# Altium integrated library Analog Devices Data Converters Analog-to-Digital Converters.IntLib: 2400 symbols (part 182 of 338)
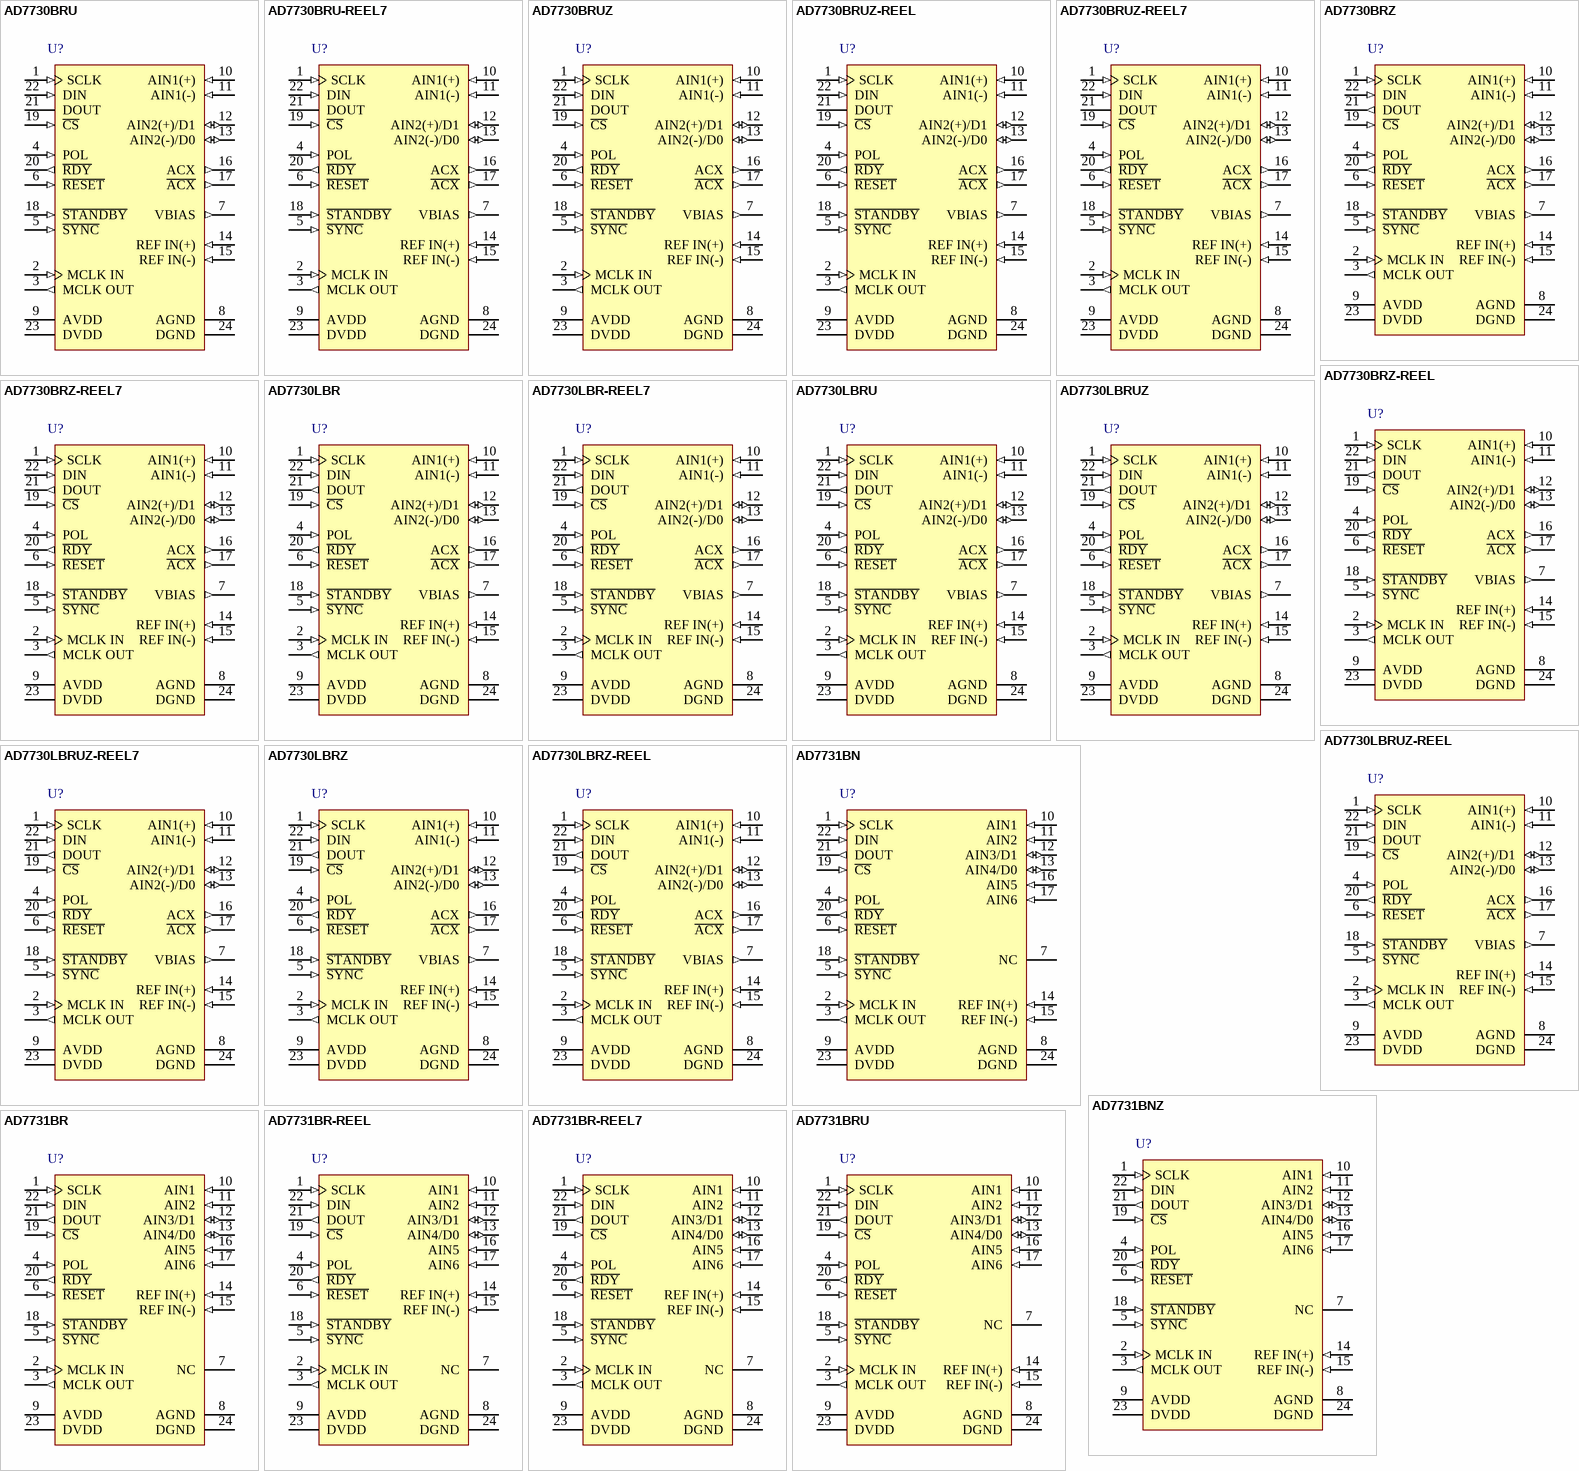
[diagram p356: symbols AD7730BRU to AD7731BRU]

## AD7730LBRUZ-REEL7
designator U?
Dual 24-Bit Bridge Transducer Analog-to-Digital Converter with Serial, SPI Interface, 600SPS, -40 to +85 degC, RU-24, Pb-Free, Reel; Part Number: AD7730L; Manufacturer: Analog Devices; Resolution (Bits): 24; Channels: 2; Throughput Rate (SPS): 600; Interface: Ser, SPI; DatasheetVersion: Rev.A; PackageVersion: 2002; PackageReference: RU-24; PackageDescription: 24-Lead Thin Shrink Small Outline Package [TSSOP]; RoHS: Y; Packing: Reel; Mounting Technology: Surface Mount; Code_JEDEC: MO-153-AD; ComponentLink1Description: Manufacturer URL; ComponentLink1URL: http://www.analog.com/en/index.html; ComponentLink2Description: Datasheet; ComponentLink2URL: http://www.analog.com/static/imported-files/data_sheets/AD7730_7730L.pdf; ComponentLink3Description: Package Specification; ComponentLink3URL: http://www.analog.com/static/imported-files/packages/380523655245964505593671154107510036154RU24.pdf; ComponentLink4Description: Product URL; ComponentLink4URL: http://www.analog.com/en/analog-to-digital-converters/ad-converters/ad7730l/products/product.html
footprint RU-24_N (TSOP, 24-Leads, Body 7.8x4.4mm, Pitch 0.65mm, IPC Medium Density)
footprint RU-24_L (TSOP, 24-Leads, Body 7.8x4.4mm, Pitch 0.65mm, IPC High Density)
footprint RU-24_M (TSOP, 24-Leads, Body 7.8x4.4mm, Pitch 0.65mm, IPC Low Density)
pins: 1 SCLK (in) "Serial Clock. Schmitt-Triggered Logic Input. An external serial clock is applied to this input to transfer serial data to or from the AD7730. This serial clock can be a continuous clock with all data transmitted in a (See Datasheet)", 2 MCLK IN (in) "Master Clock signal for the device. This can be provided in the form of a crystal/resonator or external clock. A crystal/resonator can be tied across the MCLK IN and MCLK OUT pins. Alternatively, the MCLK IN pin can be (See Datasheet)", 3 MCLK OUT (out) "When the master clock for the device is a crystal/resonator, the crystal/resonator is connected between MCLK IN and MCLK OUT. If an external clock is applied to the MCLK IN, MCLK OUT provides an inverted clock signal. This (See Datasheet)", 4 POL (in) "Clock Polarity. Logic Input. This determines the polarity of the serial clock. If the active edge for the processor is a high-to-low SCLK transition, this input should be low. In this mode, the AD7730 puts out data on the (See Datasheet)", 5 ~{SYNC} (in) "Logic Input that allows for synchronization of the digital filters and analog modulators when using a numberof AD7730s. While S\Y\N\C\  is low, the nodes of the digital filter, the filter control logic and the calibration (See Datasheet)", 6 ~{RESET} (in) "Logic Input. Active low input that resets the control logic, interface logic, digital filter, analog modulator an dall on-chip registers of the part to power-on status. Effectively, everything on the part except for the (See Datasheet)", 7 VBIAS (out) "Analog Output. This analog output is an internally-generated voltage used as an internal operating bias point. This output is not for use external to the AD7730 and it is recommended that the user does not connect anything (See Datasheet)", 8 AGND (power) "Ground reference point for analog circuitry.", 9 AVDD (power) "Analog Positive Supply Voltage. The AVDD to AGND differential is 5 V nominal.", 10 AIN1(+) (in) "Analog Input Channel 1. Positive input of the differential, programmable-gain primary analog input pair. The differential analog input ranges are 0 mV to +10 mV, 0 mV to +20 mV, 0 mV to +40 mV and 0 mV to +80 mV in unipolar (See Datasheet)", 11 AIN1(-) (in) "Analog Input Channel 1. Negative input of the differential, programmable gain primary analog input pair.", 12 AIN2(+)/D1 (io) "Analog Input Channel 2 or Digital Output 1. This pin can be used either as part of a second analog input channel or as a digital output bit as determined by the DEN bit of the Mode Register. When selected as an analog input, (See Datasheet)", 13 AIN2(-)/D0 (io) "Analog Input Channel 2 or Digital Output 0. This pin can be used either as part of a second analog input channel or as a digital output bit as determined by the DEN bit of the Mode Register. When selected as an analog input, (See Datasheet)", 14 REF IN(+) (in) "Reference Input. Positive terminal of the differential reference input to the AD7730. REF IN(+) can lie anywhere between AVDD and AGND. The nominal reference voltage (the differential voltage between REF IN(+) and REF IN(-)) (See Datasheet)", 15 REF IN(-) (in) "Reference Input. Negative terminal of the differential reference input to the AD7730. The REF IN(-) potential can lie anywhere between AVDD and AGND.", 16 ACX (out) "Digital Output. Provides a signal that can be used to control the reversing of the bridge excitation in acexcited bridge applications. When ACX is high, the bridge excitation is taken as normal and when ACX is low, the (See Datasheet)", 17 ~{ACX} (out) "Digital Output. Provides a signal that can be used to control the reversing of the bridge excitation in acexcited bridge applications. This output is the complement of A\C\X\ . In ac mode, this means that it toggles in (See Datasheet)", 18 ~{STANDBY} (in) "Logic Input. Taking this pin low shuts down the analog and digital circuitry, reducing current consumption to the 5 uA range. The on-chip registers retain all their values when the part is in standby mode.", 19 ~{CS} (in) "Chip Select. Active low Logic Input used to select the AD7730. With this input hardwired low, the AD7730 can operate in its three-wire interface mode with SCLK, DIN and DOUT used to interface to the device. C\S\  can be used (See Datasheet)", 20 ~{RDY} (out) "Logic Output. Used as a status output in both conversion mode and calibration mode. In conversion mode, a logic low on this output indicates that a new output word is available from the AD7730 data register. The R\D\Y\  pin (See Datasheet)", 21 DOUT (out) "Serial Data Output with serial data being read from the output shift register on the part. This output shift register can contain information from the calibration registers, mode register, status register, filter register, (See Datasheet)", 22 DIN (in) "Serial Data Input with serial data being written to the input shift register on the part. Data from this input shift register is transferred to the calibration registers, mode register, communications register, DAC register (See Datasheet)", 23 DVDD (power) "Digital Supply Voltage, +3 V or +5 V nominal.", 24 DGND (power) "Ground reference point for digital circuitry."